# Altium schematic symbol library texas.SCHLIB: 1 symbol
Pins are listed as number, name and electrical type; pins without a type are passive.

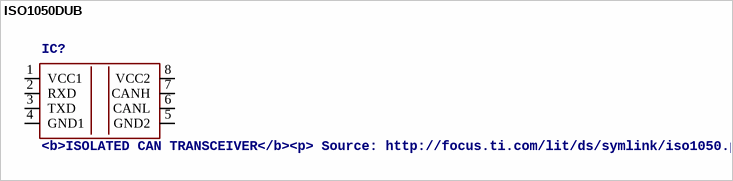
[diagram p0: symbol ISO1050DUB]

## ISO1050DUB
designator IC?, comment <b>ISOLATED CAN TRANSCEIVER</b><p> / Source: http://focus.ti.com/lit/ds/symlink/iso1050.pdf
MPN: ISO1050DUBR; OC_FARNELL: 1755712; OC_NEWARK: 14R9899
footprint DUB-R-PDSO-G8
pins: 1 VCC1, 2 RXD, 3 TXD, 4 GND1, 5 GND2, 6 CANL, 7 CANH, 8 VCC2